# EAGLE library part KSZ8081MLX (library ICs)
1/1 Transceiver Full Ethernet 48-LQFP (7x7)
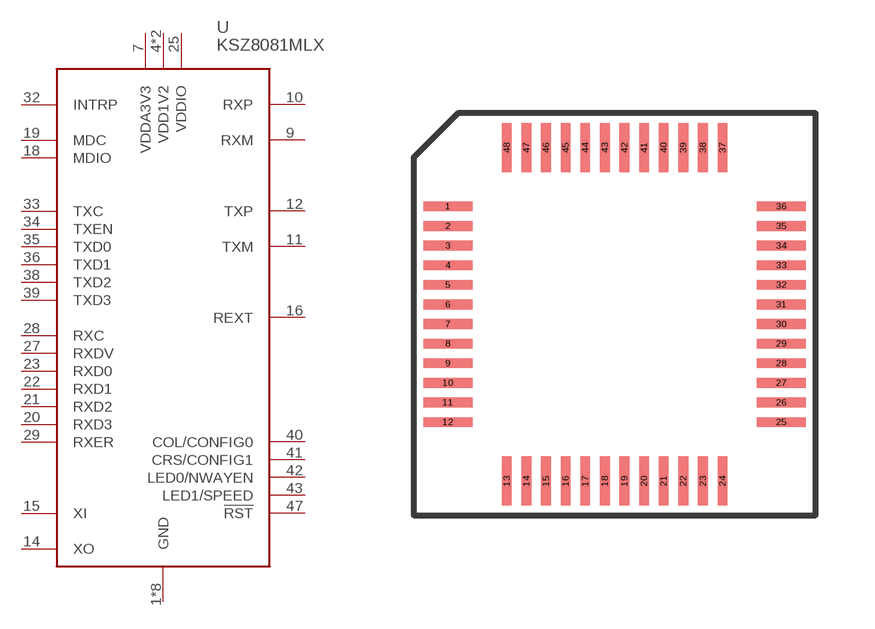
[diagram p216: symbol with the pads of QFP48; footprint QFP48]

Designator prefix U

## KSZ8081MLX (DIGIKEY: 576-4311-ND; HEIGHT: 1.5; PRICE_PER: 0.97; VALUE: KSZ8081)  [QFP48]
1  GND
2  GND
3  GND
4  VDD1V2
7  VDDA3V3
9  RXM
10  RXP
11  TXM
12  TXP
13  GND
14  XO
15  XI
16  REXT
17  GND
18  MDIO
19  MDC
20  RXD3
21  RXD2
22  RXD1
23  RXD0
24  GND
25  VDDIO
27  RXDV
28  RXC
29  RXER
30  GND
31  VDD1V2
32  INTRP
33  TXC
34  TXEN
35  TXD0
36  TXD1
37  GND
38  TXD2
39  TXD3
40  COL/CONFIG0
41  CRS/CONFIG1
42  LED0/NWAYEN
43  LED1/SPEED
47  !RST

## Footprint QFP48 (pad centres in mm)
smd 1.25 x 0.25: 1 -4.25,2.75; 2 -4.25,2.25; 3 -4.25,1.75; 4 -4.25,1.25; 5 -4.25,0.75; 6 -4.25,0.25; 7 -4.25,-0.25; 8 -4.25,-0.75; 9 -4.25,-1.25; 10 -4.25,-1.75; 11 -4.25,-2.25; 12 -4.25,-2.75; 25 4.25,-2.75; 26 4.25,-2.25; 27 4.25,-1.75; 28 4.25,-1.25; 29 4.25,-0.75; 30 4.25,-0.25; 31 4.25,0.25; 32 4.25,0.75; 33 4.25,1.25; 34 4.25,1.75; 35 4.25,2.25; 36 4.25,2.75
smd 0.25 x 1.25: 13 -2.75,-4.25; 14 -2.25,-4.25; 15 -1.75,-4.25; 16 -1.25,-4.25; 17 -0.75,-4.25; 18 -0.25,-4.25; 19 0.25,-4.25; 20 0.75,-4.25; 21 1.25,-4.25; 22 1.75,-4.25; 23 2.25,-4.25; 24 2.75,-4.25; 37 2.75,4.25; 38 2.25,4.25; 39 1.75,4.25; 40 1.25,4.25; 41 0.75,4.25; 42 0.25,4.25; 43 -0.25,4.25; 44 -0.75,4.25; 45 -1.25,4.25; 46 -1.75,4.25; 47 -2.25,4.25; 48 -2.75,4.25